# EAGLE library part ICSP-6 (library lieven)
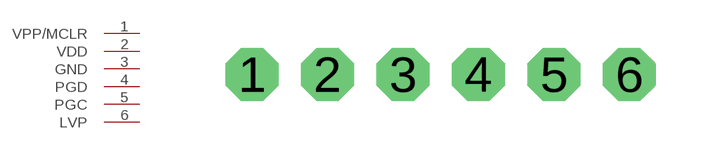
[diagram p6: symbol with the pads of 1X06-CLEANBIG; footprint 1X06-CLEANBIG]

Designator prefix -

## ICSP-6_6P  [1X06-CLEANBIG]
1  VPP/MCLR
2  VDD
3  GND
4  PGD
5  PGC
6  LVP

## Footprint 1X06-CLEANBIG (pad centres in mm)
drill 1.016 pad 1.778 octagon: 1 -6.35,0; 2 -3.81,0; 3 -1.27,0; 4 1.27,0; 5 3.81,0; 6 6.35,0